# EAGLE library part FT232RL (library ruark2)
USB Bridge, USB to UART USB 2.0 UART Interface 28-SSOP FTDI
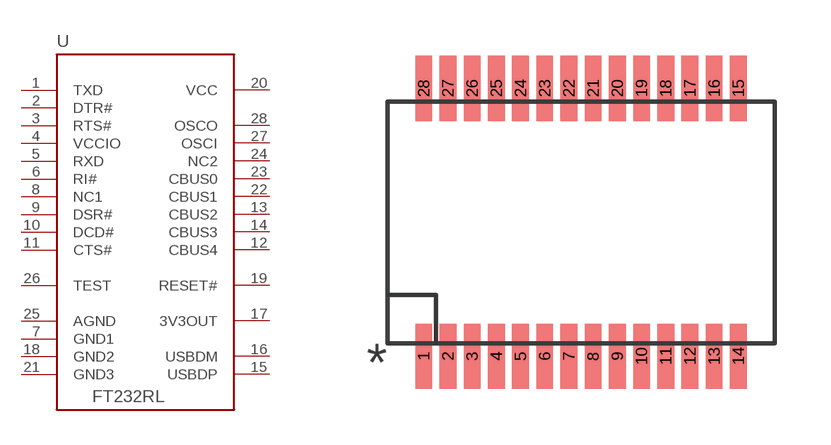
[diagram p40: symbol with the pads of SSOP28; footprint SSOP28]

Designator prefix U

## FT232RL (PARTNO: 768-1007-1-ND)  [SSOP28]
1  TXD  out
2  DTR#  out
3  RTS#  out
4  VCCIO  pwr
5  RXD  in
6  RI#  in
7  GND1  pwr
8  NC1  nc
9  DSR#  in
10  DCD#  in
11  CTS#  in
12  CBUS4
13  CBUS2
14  CBUS3
15  USBDP
16  USBDM
17  3V3OUT  pwr
18  GND2  pwr
19  RESET#  in
20  VCC  pwr
21  GND3  pwr
22  CBUS1
23  CBUS0
24  NC2  nc
25  AGND  pwr
26  TEST  in
27  OSCI  in
28  OSCO  out

## Footprint SSOP28 (pad centres in mm)
smd 0.45 x 1.75: 1 -4.225,-3.6; 2 -3.575,-3.6; 3 -2.925,-3.6; 4 -2.275,-3.6; 5 -1.625,-3.6; 6 -0.975,-3.6; 7 -0.325,-3.6; 8 0.325,-3.6; 9 0.975,-3.6; 10 1.625,-3.6; 11 2.275,-3.6; 12 2.925,-3.6; 13 3.575,-3.6; 14 4.225,-3.6; 15 4.225,3.6; 16 3.575,3.6; 17 2.925,3.6; 18 2.275,3.6; 19 1.625,3.6; 20 0.975,3.6; 21 0.325,3.6; 22 -0.325,3.6; 23 -0.975,3.6; 24 -1.625,3.6; 25 -2.275,3.6; 26 -2.925,3.6; 27 -3.575,3.6; 28 -4.225,3.6